# Altium schematic symbol library QN9080.SchLib: 14 symbols
Pins are listed as number, name and electrical type; pins without a type are passive.

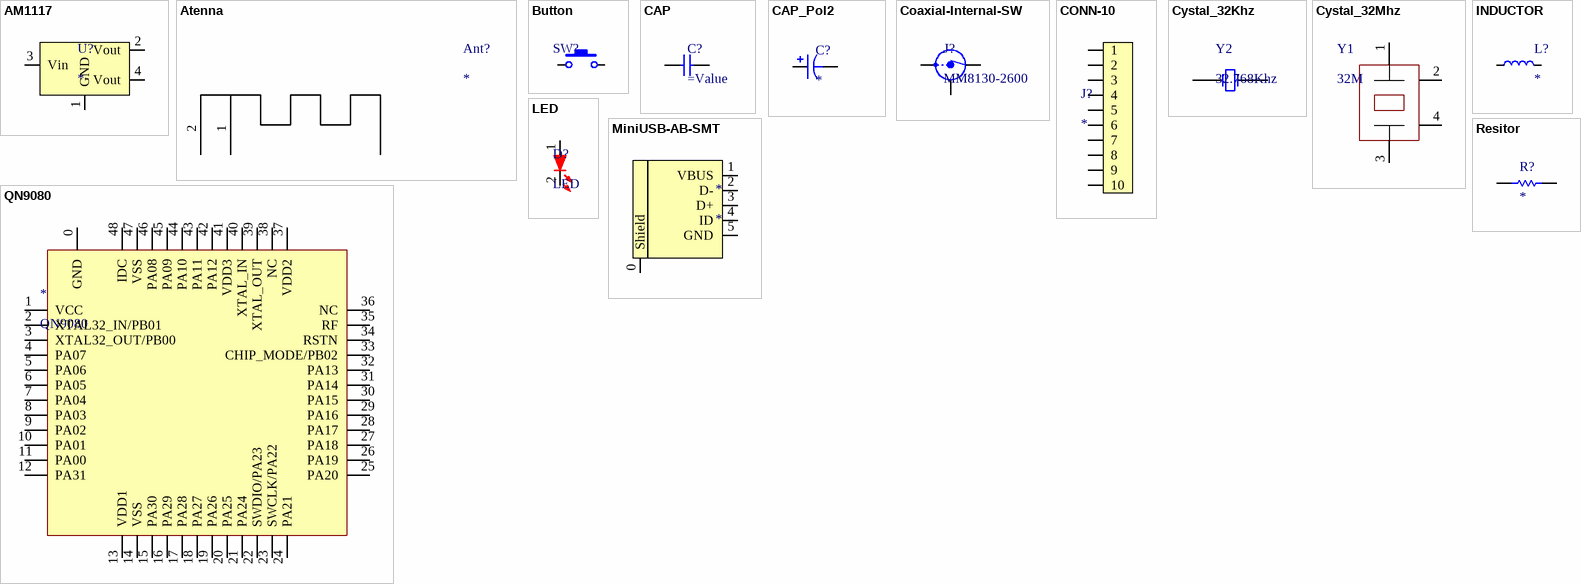
[diagram p0: symbols AM1117 to Resitor]

## AM1117
designator U?
footprint SOT-223 (AMS1117)
pins: 1 GND, 2 Vout, 3 Vin, 4 Vout

## Atenna
designator Ant?
footprint ANTENNA_IIFA_1
pins: 1 ANT, 2 GND

## Button
designator SW?  (value not drawn)
footprint E-Switch
pins: 1, 2

## CAP
designator C?
Capacitor
footprint RCL_0603
pins: 1, 2

## CAP_Pol2
designator C?
footprint RCL_0805
pins: 1, 2

## Coaxial-Internal-SW
designator J?, comment MM8130-2600
Coaxial Connector with Switch; Value: MM8130-2600
footprint COAXIAL-SWF
pins: 1 IN, 2 Shield, 3 OUT

## CONN-10
designator J?
Pin List 1x10, 2.54mm (100mil), SMD
footprint HDR_1x10 (Pin Header, 2.54mm through hole)
pins: 1, 2, 3, 4, 5, 6, 7, 8, 9, 10

## Cystal_32Khz
designator Y2, comment 32.768Khz
footprint XTAL32K_2012 (XTAL SMD 2.0 x 1.2 mm)
pins: 1 OSC1, 2 OSC2

## Cystal_32Mhz
designator Y1, comment 32M
footprint BT-XTAL_2016 (Crystal 2.0 x 1.6 mm)
pins: 1 XTAL1, 2 GND, 3 XTAL2, 4 GND

## INDUCTOR
designator L?
footprint RCL_0402 (Chip Capacitor, 2-Leads, Body 1.0x0.5mm, IPC High Density)
pins: 1, 2

## LED
designator D?
footprint LED_0603 (SMD Super Bright LED, GREEN)
pins: 1, 2

## MiniUSB-AB-SMT
designator *
MicroUSB-B-SMT
footprint USB-Micro-B-RA-SMD-PiP (Micro USB B SMT)
pins: 0 Shield (power), 1 VBUS (power), 2 D-, 3 D+, 4 ID, 5 GND (power)

## QN9080
designator *
footprint QN9080QFN48pin
pins: 0 GND, 1 VCC, 2 XTAL32_IN/PB01, 3 XTAL32_OUT/PB00, 4 PA07, 5 PA06, 6 PA05, 7 PA04, 8 PA03, 9 PA02, 10 PA01, 11 PA00, 12 PA31, 13 VDD1, 14 VSS, 15 PA30, 16 PA29, 17 PA28, 18 PA27, 19 PA26, 20 PA25, 21 PA24, 22 SWDIO/PA23, 23 SWCLK/PA22, 24 PA21, 25 PA20, 26 PA19, 27 PA18, 28 PA17, 29 PA16, 30 PA15, 31 PA14, 32 PA13, 33 CHIP_MODE/PB02, 34 RSTN, 35 RF, 36 NC, 37 VDD2, 38  NC, 39 XTAL_OUT, 40 XTAL_IN, 41 VDD3, 42 PA12, 43 PA11, 44 PA10, 45 PA09, 46 PA08, 47 VSS, 48 IDC

## Resitor
designator R?
footprint RCL_0603
pins: 1, 2